# Altium footprint library ZMBo Footprint Library.PcbLib: 76 footprints (part 4 of 5)
Each footprint in its own frame and in the unit in brackets; x right, y up, seen from the top. Pads: shape width x height; smd on the part's side, far side on the other; paste and mask are expansions set on the pad; w line width, h text height; cw(c..) or ccw(c..) is an arc to the next point about the centre after c.
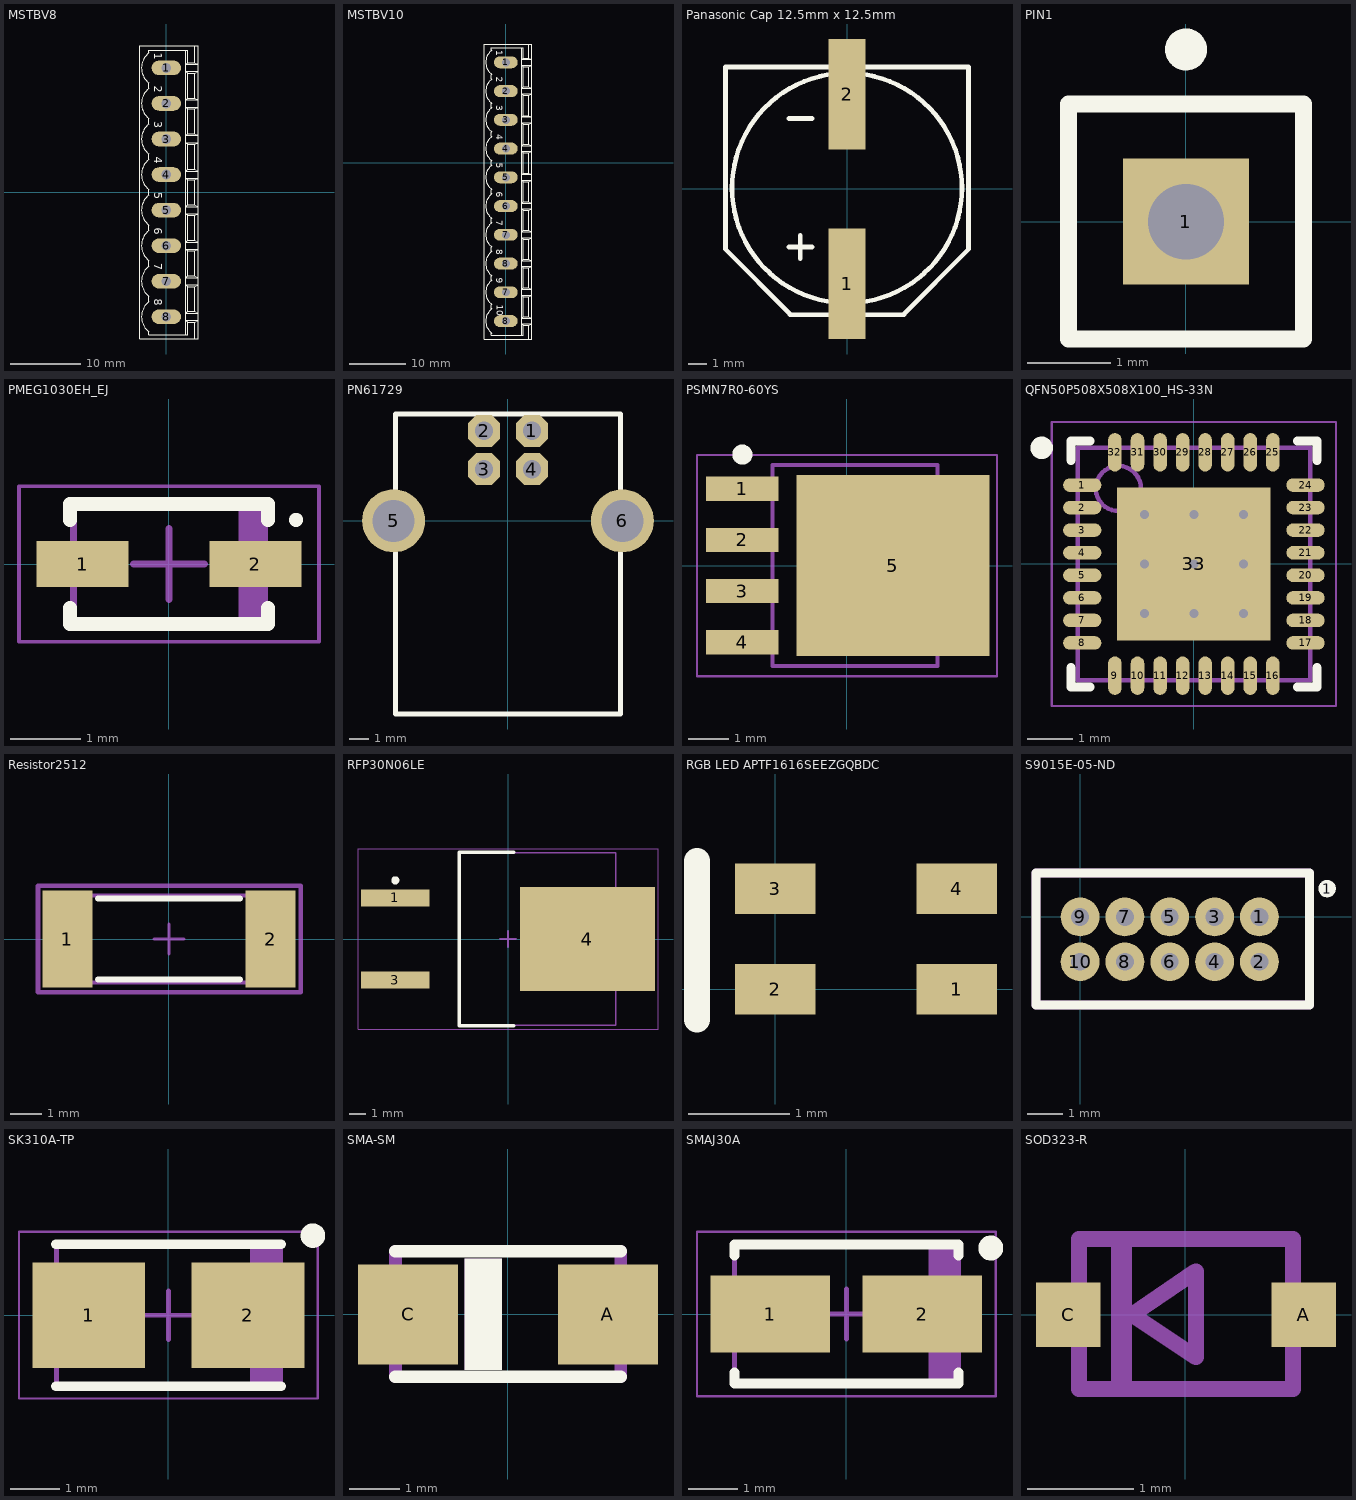
[diagram p3: the footprints below, top view; thin cyan lines are the x and y axes]

## MSTBV8 [mil]
pads (8):
  oval 165x82.5 hole 55: 1(0,700) 2(0,500) 3(0,300) 4(0,100) 5(0,-100) 6(0,-300) 7(0,-500) 8(0,-700)
Top Overlay:
  drawing of 151 lines, arcs and shapes, not listed
  text "8" at -85,-600 h77.5
  text "7" at -85,-400 h77.5
  text "6" at -85,-200 h77.5
  text "5" at -85,0 h77.5
  text "1" at -85,785 h77.5
  text "2" at -85,600 h77.5
  text "3" at -85,400 h77.5
  text "4" at -85,200 h77.5
Mechanical 16:
  lines w6: -25,-725 -25,-675 ; -25,-725 25,-675 ; -25,-725 25,-725 ; -25,-675 25,-725 ; -25,-675 25,-675 ; -25,-525 -25,-475 ; -25,-525 25,-475 ; -25,-525 25,-525 ; -25,-475 25,-525 ; -25,-475 25,-475 ; -25,-325 25,-275 ; -25,-325 25,-325 ; -25,-325 -25,-275 ; -25,-275 25,-325 ; -25,-275 25,-275 ; -25,-125 25,-75 ; -25,-125 25,-125 ; -25,-125 -25,-75 ; -25,-75 25,-125 ; -25,-75 25,-75 ; -25,75 25,75 ; -25,75 25,125 ; -25,75 -25,125 ; -25,125 25,125 ; -25,125 25,75 ; -25,275 -25,325 ; -25,275 25,275 ; -25,275 25,325 ; -25,325 25,325 ; -25,325 25,275 ; -25,475 -25,525 ; -25,475 25,475 ; -25,475 25,525 ; -25,525 25,525 ; -25,525 25,475 ; -25,675 -25,725 ; -25,675 25,675 ; -25,675 25,725 ; -25,725 25,725 ; -25,725 25,675 ; 25,-725 25,-675 ; 25,-525 25,-475 ; 25,-325 25,-275 ; 25,-125 25,-75 ; 25,75 25,125 ; 25,275 25,325 ; 25,475 25,525 ; 25,675 25,725
3D body: height 472.44, standoff 0, extent -150,-825 180,825

## MSTBV10 [mil]
pads (10):
  oval 165x82.5 hole 55: 1(0,700) 2(0,500) 3(0,300) 4(0,100) 5(0,-100) 6(0,-300) 7(0,-900) 7(0,-500) 8(0,-1100) 8(0,-700)
Top Overlay:
  drawing of 194 lines, arcs and shapes, not listed
  text "8" at -85,-600 h77.5
  text "7" at -85,-400 h77.5
  text "6" at -85,-200 h77.5
  text "5" at -85,0 h77.5
  text "1" at -85,785 h77.5
  text "2" at -85,600 h77.5
  text "3" at -85,400 h77.5
  text "4" at -85,200 h77.5
  text "9" at -85,-800 h77.5
  text "10" at -80,-985 h77.5
Mechanical 16:
  lines w6: -25,-1125 25,-1125 ; -25,-1125 25,-1075 ; -25,-1125 -25,-1075 ; -25,-1075 25,-1075 ; -25,-1075 25,-1125 ; -25,-925 25,-925 ; -25,-925 25,-875 ; -25,-925 -25,-875 ; -25,-875 25,-875 ; -25,-875 25,-925 ; -25,-725 -25,-675 ; -25,-725 25,-675 ; -25,-725 25,-725 ; -25,-725 25,-725 ; -25,-675 25,-725 ; -25,-675 25,-675 ; -25,-525 -25,-475 ; -25,-525 25,-475 ; -25,-525 25,-525 ; -25,-475 25,-525 ; -25,-475 25,-475 ; -25,-325 25,-275 ; -25,-325 25,-325 ; -25,-325 -25,-275 ; -25,-275 25,-325 ; -25,-275 25,-275 ; -25,-125 25,-75 ; -25,-125 25,-125 ; -25,-125 -25,-75 ; -25,-75 25,-125 ; -25,-75 25,-75 ; -25,75 25,75 ; -25,75 25,125 ; -25,75 -25,125 ; -25,125 25,125 ; -25,125 25,75 ; -25,275 -25,325 ; -25,275 25,275 ; -25,275 25,325 ; -25,325 25,325 ; -25,325 25,275 ; -25,475 -25,525 ; -25,475 25,475 ; -25,475 25,525 ; -25,525 25,525 ; -25,525 25,475 ; -25,675 -25,725 ; -25,675 25,675 ; -25,675 25,725 ; -25,725 25,725 ; -25,725 25,675 ; 25,-1125 25,-1075 ; 25,-925 25,-875 ; 25,-725 25,-675 ; 25,-525 25,-475 ; 25,-325 25,-275 ; 25,-125 25,-75 ; 25,75 25,125 ; 25,275 25,325 ; 25,475 25,525 ; 25,675 25,725
3D body: height 472.44, standoff 0, extent -150,-1225 180,825

## Panasonic Cap 12.5mm x 12.5mm [mil]
pads (2):
  rect 79x236 smd: 1(0,-204) 2(0,202)
Top Overlay:
  circle w10: c0,1 r246
  lines w10: -125,-125 -75,-125 ; -125,150 -75,150 ; -122,-270 122,-270 ; -121,-269 -260,-130 -260,260 260,260 260,-130 121,-269 ; -100,-150 -100,-100

## PIN1 [mm] "Connector; Plug"
pads (1):
  rect 1.5x1.5 hole 0.9: 1(0,0)
Top Overlay:
  circle w0.25: c0,2.05 r0.125
  lines w0.2: -1.4,-1.4 1.4,-1.4 1.4,1.4 -1.4,1.4 -1.4,-1.4

## PMEG1030EH_EJ [mm] "Molded Diode, 2-Leads, Body 2.60x1.60mm, IPC Medium Density"
height 1.2
pads (2):
  rect 1.3x0.65 smd: 1(-1.225,0) 2(1.225,0)
Top Overlay:
  circle w0.1: c1.8,0.625 r0.05
  lines w0.2: -1.4,-0.625 -1.4,-0.85 1.4,-0.85 1.4,-0.625 ; -1.4,0.625 -1.4,0.85 1.4,0.85 1.4,0.625
Mechanical 13:
  rectangle: 0.987,-0.85 1.35,0.85
  lines w0.1: -1.35,-0.85 1.35,-0.85 1.35,0.85 -1.35,0.85 -1.35,-0.85
Mechanical 15:
  lines w0.05: -2.125,-1.1 2.125,-1.1 2.125,1.1 -2.125,1.1 -2.125,-1.1
  lines w0.1: -0.5,0 0.5,0 ; 0,-0.5 0,0.5
3D body: height 1.2, standoff 0, extent -1.35,-0.85 1.35,0.85

## PN61729 [mil]
pads (6):
  oct 66x66 hole 38: 1(50,186) 2(-49.21,186) 3(-49.21,107) 4(50,107)
  round 130.5 hole 87: 5(-236.22,0) 6(237,0)
Top Overlay:
  lines w10: -232.28,-399.61 233,-399.61 233,221 -232.28,221 -232.28,-399.61
3D body: height 405.51, standoff 27.56, extent -237.28,-404.61 238,226

## PSMN7R0-60YS [mm] "TO, 5-Pads, Body 5.15x5.86mm (max), IPC Medium Density"
height 1.2
pads (5):
  rect 1.8x0.6 smd: 1(-2.6,1.905) 2(-2.6,0.635) 3(-2.6,-0.635) 4(-2.6,-1.905)
  rect 4.8x4.5 smd: 5(1.14,0)
Top Overlay:
  circle w0.25: c-2.6,2.755 r0.125
Mechanical 13:
  lines w0.1: -1.85,-2.5 2.25,-2.5 2.25,2.5 -1.85,2.5 -1.85,-2.5
Mechanical 15:
  lines w0.05: -3.725,-2.75 3.725,-2.75 3.725,2.75 -3.725,2.75 -3.725,-2.75
  lines w0.1: -0.5,0 0.5,0 ; 0,-0.5 0,0.5
3D body: height 1.2, standoff 0, extent -1.85,-2.5 2.25,2.5

## QFN50P508X508X100_HS-33N [mm] "QFN, 32-Leads, Body 5.08x5.08mm, Pitch 0.50mm, Thermal Pad 3.40x3.40mm, IPC Medium Density"
height 1
pads (33):
  oval 0.85x0.3 smd: 1(-2.475,1.75) 2(-2.475,1.25) 3(-2.475,0.75) 4(-2.475,0.25) 5(-2.475,-0.25) 6(-2.475,-0.75) 7(-2.475,-1.25) 8(-2.475,-1.75) 17(2.475,-1.75) 18(2.475,-1.25) 19(2.475,-0.75) 20(2.475,-0.25) 21(2.475,0.25) 22(2.475,0.75) 23(2.475,1.25) 24(2.475,1.75)
  oval 0.3x0.85 smd: 9(-1.75,-2.475) 10(-1.25,-2.475) 11(-0.75,-2.475) 12(-0.25,-2.475) 13(0.25,-2.475) 14(0.75,-2.475) 15(1.25,-2.475) 16(1.75,-2.475) 25(1.75,2.475) 26(1.25,2.475) 27(0.75,2.475) 28(0.25,2.475) 29(-0.25,2.475) 30(-0.75,2.475) 31(-1.25,2.475) 32(-1.75,2.475)
  rect 3.4x3.4 smd: 33(0,0)
via 1.1,-1.1 diameter 0.5 hole 0.2
via 0,-1.1 diameter 0.5 hole 0.2
via -1.1,-1.1 diameter 0.5 hole 0.2
via 1.1,0 diameter 0.5 hole 0.2
via 0,0 diameter 0.5 hole 0.2
via -1.1,0 diameter 0.5 hole 0.2
via 1.1,1.1 diameter 0.5 hole 0.2
via 0,1.1 diameter 0.5 hole 0.2
via -1.1,1.1 diameter 0.5 hole 0.2
Top Overlay:
  circle w0.25: c-3.375,2.575 r0.125
  lines w0.2: -2.725,-2.3 -2.725,-2.725 -2.3,-2.725 ; -2.725,2.3 -2.725,2.725 -2.3,2.725 ; 2.3,-2.725 2.725,-2.725 2.725,-2.3 ; 2.3,2.725 2.725,2.725 2.725,2.3
Mechanical 13:
  circle w0.1: c-1.675,1.675 r0.5
  lines w0.1: -2.575,-2.575 2.575,-2.575 2.575,2.575 -2.575,2.575 -2.575,-2.575
Mechanical 15:
  lines w0.05: -3.15,-3.15 3.15,-3.15 3.15,3.15 -3.15,3.15 -3.15,-3.15
  lines w0.1: -0.5,0 0.5,0 ; 0,-0.5 0,0.5
3D body: height 1, standoff 0.08, extent -2.575,-2.575 2.575,2.575

## Resistor2512 [mm]
pads (2):
  rect 1.6x3.1 smd: 1(-3.25,0) 2(3.25,0)
Top Overlay:
  lines w0.2: -2.261,-1.295 2.261,-1.295 ; -2.261,1.295 2.261,1.295
Mechanical 1:
  lines w0.126: -3.175,-1.397 -3.175,1.397 -2.54,1.397 3.175,1.397 3.175,-1.397 -3.175,-1.397
Mechanical 15:
  lines w0.1: -0.475,0 0.475,0 ; 0,-0.475 0,0.475
  lines w0.15: -4.191,-1.702 4.216,-1.702 4.216,1.702 -1.535,1.702 -4.191,1.702 -4.191,-1.702
3D body: height 0.9, standoff 0, extent -3.238,-1.397 3.239,1.397

## RFP30N06LE [mm] "D2-PAK, 3-Pads, Body 7.93x8.69mm (max), IPC Medium Density"
height 4.83
pads (3):
  rect 4.2x1.05 smd: 1(-6.95,2.54) 3(-6.95,-2.54)
  rect 8.3x6.4 smd: 4(4.9,0)
Top Overlay:
  circle w0.25: c-6.95,3.615 r0.125
  lines w0.2: 0.35,-5.35 -3,-5.35 -3,5.35 0.35,5.35
Mechanical 13:
  lines w0.1: -3,-5.325 6.65,-5.325 6.65,5.325 -3,5.325 -3,-5.325
Mechanical 15:
  lines w0.05: -9.25,-5.575 9.25,-5.575 9.25,5.575 -9.25,5.575 -9.25,-5.575
  lines w0.1: -0.5,0 0.5,0 ; 0,-0.5 0,0.5
3D body: height 4.83, standoff 0, extent -3,-5.325 6.65,5.325

## RGB LED APTF1616SEEZGQBDC [mm] "RGB LED"
pads (4):
  rect 0.8x0.5 smd: 1(1.8,0) 2(0,0) 3(0,1) 4(1.8,1)
Top Overlay:
  lines w0.254: -0.775,-0.3 -0.775,1.275

## S9015E-05-ND [mm] "10 Pin Cortex JTAG Debug Header"
pads (11):
  round 1.1 hole 0.508: 1(5.08,0) 2(5.08,-1.27) 3(3.81,0) 4(3.81,-1.27) 5(2.54,0) 6(2.54,-1.27) 7(1.27,0) 8(1.27,-1.27) 9(0,0) 10(0,-1.27)
  round 0.5 on Top Overlay: 1(7,0.8)
Top Overlay:
  lines w0.254: -1.25,-2.5 -1.25,1.25 6.5,1.25 6.5,-2.5 -1.25,-2.5
Mechanical 13:
  lines w0.254: -1.25,-2.5 -1.25,1.25 6.5,1.25 6.5,-2.5 -1.25,-2.5

## SK310A-TP [mm] "Molded Diode, 2-Leads, Body 4.31x2.69mm, IPC Medium Density"
height 2.95
pads (2):
  rect 2.3x2.15 smd: 1(-1.625,0) 2(1.625,0)
Top Overlay:
  circle w0.25: c2.95,1.625 r0.125
  lines w0.2: -2.3,-1.45 2.3,-1.45 ; -2.3,1.45 2.3,1.45
Mechanical 13:
  rectangle: 1.67,-1.42 2.285,1.42
  lines w0.1: -2.285,-1.42 -2.285,1.42 2.285,1.42 2.285,-1.42 -2.285,-1.42
Mechanical 15:
  lines w0.05: -3.05,-1.7 -3.05,1.7 3.05,1.7 3.05,-1.7 -3.05,-1.7
  lines w0.1: -0.5,0 0.5,0 ; 0,-0.5 0,0.5
3D body: height 2.95, standoff 0, extent -2.285,-1.42 2.285,1.42

## SMA-SM [mil]
pads (2):
  rect 79x79 smd: A(79,0) C(-78.74,0)
Top Overlay:
  rectangle: -34.06,-43.9 -4.53,44
  lines w10: -88.58,-49.21 89,-49.21 ; -88.58,50 89,50
Mechanical 8:
  rectangle: 94,-32.48 111,32
  rectangle: -110.24,-31.5 -93.7,32
  rectangle: -34.06,-43.9 -4.53,44
  lines w10: -88.58,-49.21 -88.58,50 ; 89,-49.21 89,50
3D body: height 116.14, standoff 0, extent -93.58,-54.21 94,55
3D body: height 78.74, standoff 0, extent -105,-40 105,40

## SMAJ30A [mm] "Molded Diode, 2-Leads, Body 4.25x2.67mm, IPC Medium Density"
height 2.29
pads (2):
  rect 2.4x1.55 smd: 1(-1.525,0) 2(1.525,0)
Top Overlay:
  circle w0.25: c2.9,1.325 r0.125
  lines w0.2: -2.25,-1.175 -2.25,-1.4 2.25,-1.4 2.25,-1.175 ; -2.25,1.175 -2.25,1.4 2.25,1.4 2.25,1.175
Mechanical 13:
  rectangle: 1.645,-1.395 2.25,1.395
  lines w0.1: -2.25,-1.395 -2.25,1.395 2.25,1.395 2.25,-1.395 -2.25,-1.395
Mechanical 15:
  lines w0.05: -3,-1.65 -3,1.65 3,1.65 3,-1.65 -3,-1.65
  lines w0.1: -0.5,0 0.5,0 ; 0,-0.5 0,0.5
3D body: height 2.29, standoff 0, extent -2.25,-1.395 2.25,1.395

## SOD323-R [mil]
pads (2):
  rect 24x24 smd: A(44,0) C(-43.31,0)
Mechanical 16:
  rectangle: -27.56,-27.56 -19.69,28
  lines w6: -39.37,-27.56 40,-27.56 40,28 -39.37,28 -39.37,-27.56 ; -19.69,0 4,16 4,-15.75 -19.69,0
3D body: height 27.56, standoff 0, extent -42.37,-30.56 43,31
3D body: height 15.75, standoff 0, extent -50,-5 -35,5
3D body: height 15.75, standoff 0, extent 35,-5 50,5